# EAGLE library part M4A5_64/32 (library Protein)
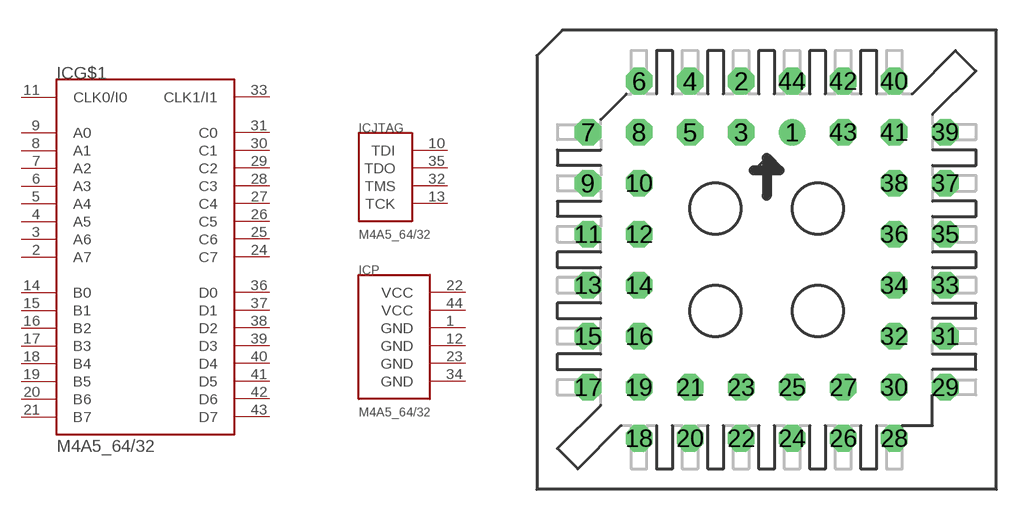
[diagram p0: symbol with the pads of PLCC-S44; footprint PLCC-S44]

Designator prefix IC; gates G$1=M4A5_64/32 JTAG=M4A5_JTAG P=M4A5_PWR

## M4A5_64/32  [PLCC-S44]
1  P:GND  pwr
2  G$1:A7
3  G$1:A6
4  G$1:A5
5  G$1:A4
6  G$1:A3
7  G$1:A2
8  G$1:A1
9  G$1:A0
10  JTAG:TDI  in
11  G$1:CLK0/I0  in
12  P:GND  pwr
13  JTAG:TCK  in
14  G$1:B0
15  G$1:B1
16  G$1:B2
17  G$1:B3
18  G$1:B4
19  G$1:B5
20  G$1:B6
21  G$1:B7
22  P:VCC  pwr
23  P:GND  pwr
24  G$1:C7
25  G$1:C6
26  G$1:C5
27  G$1:C4
28  G$1:C3
29  G$1:C2
30  G$1:C1
31  G$1:C0
32  JTAG:TMS  in
33  G$1:CLK1/I1  in
34  P:GND  pwr
35  JTAG:TDO  out
36  G$1:D0
37  G$1:D1
38  G$1:D2
39  G$1:D3
40  G$1:D4
41  G$1:D5
42  G$1:D6
43  G$1:D7
44  P:VCC  pwr

## Footprint PLCC-S44 (pad centres in mm)
drill 0.813: 1 1.27,6.35
drill 0.813 octagon: 2 -1.27,8.89; 3 -1.27,6.35; 4 -3.81,8.89; 5 -3.81,6.35; 6 -6.35,8.89; 7 -8.89,6.35; 8 -6.35,6.35; 9 -8.89,3.81; 10 -6.35,3.81; 11 -8.89,1.27; 12 -6.35,1.27; 13 -8.89,-1.27; 14 -6.35,-1.27; 15 -8.89,-3.81; 16 -6.35,-3.81; 17 -8.89,-6.35; 18 -6.35,-8.89; 19 -6.35,-6.35; 20 -3.81,-8.89; 21 -3.81,-6.35; 22 -1.27,-8.89; 23 -1.27,-6.35; 24 1.27,-8.89; 25 1.27,-6.35; 26 3.81,-8.89; 27 3.81,-6.35; 28 6.35,-8.89; 29 8.89,-6.35; 30 6.35,-6.35; 31 8.89,-3.81; 32 6.35,-3.81; 33 8.89,-1.27; 34 6.35,-1.27; 35 8.89,1.27; 36 6.35,1.27; 37 8.89,3.81; 38 6.35,3.81; 39 8.89,6.35; 40 6.35,8.89; 41 6.35,6.35; 42 3.81,8.89; 43 3.81,6.35; 44 1.27,8.89